# EAGLE library part TP4056 (library lipo)
1A Standalone Linear Li-lon Battery Charger with Thermal Regulation The TP4056 is a complete constant-current/constant-voltage linear charger for single cell lithium-ion batteries. Its SOP package and low external component count make the TP4056 ideally suited for portable applications. Further more, the TP4056 can work within USB and wall adapter.
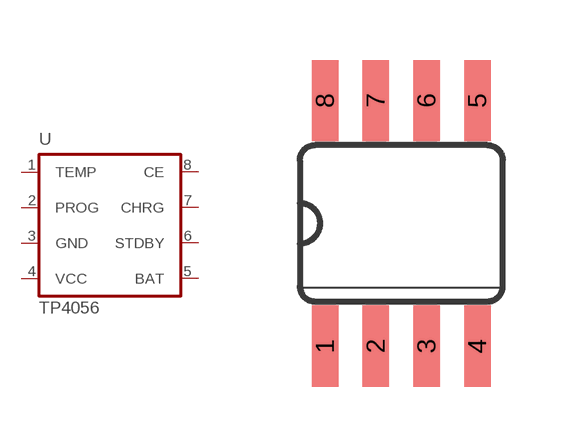
[diagram p1: symbol with the pads of SO08; footprint SO08]

Designator prefix -

## TP4056  [SO08]
1  TEMP  pwr
2  PROG  in
3  GND  out
4  VCC  pwr
5  BAT  in
6  STDBY  in
7  CHRG  out
8  CE  in

## Footprint SO08 (pad centres in mm)
Small Outline Package SOIC 150 mil
smd 0.66 x 2.032: 1 -1.905,-3.073; 2 -0.635,-3.073; 3 0.635,-3.073; 4 1.905,-3.073; 5 1.905,3.073; 6 0.635,3.073; 7 -0.635,3.073; 8 -1.905,3.073